# EAGLE library part 3-794618-8 (library actuador)
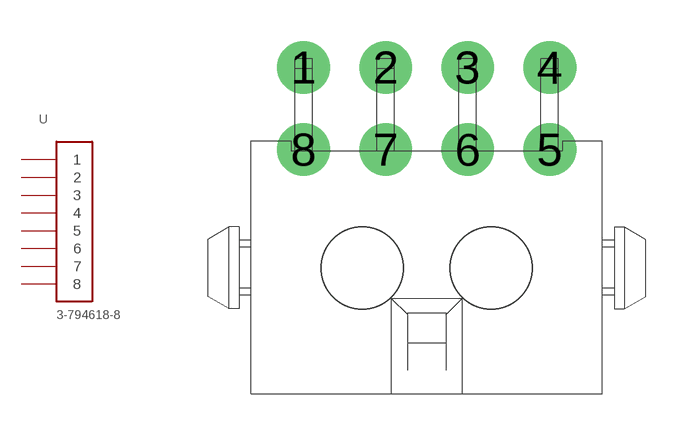
[diagram p3: symbol with the pads of 3-794619-8; footprint 3-794619-8]

Designator prefix -

## 3-794618-8  [3-794619-8]
1  1
2  2
3  3
4  4
5  5
6  6
7  7
8  8

## Footprint 3-794619-8 (pad centres in mm)
drill 1.02 pad 1.93: 1 -4.5,5.8; 2 -1.5,5.8; 3 1.5,5.8; 4 4.5,5.8; 5 4.5,2.8; 6 1.5,2.8; 7 -1.5,2.8; 8 -4.5,2.8
hole 3 at 2.35,-1.52
hole 3 at -2.35,-1.52